# Altium footprint library PcbLib1.PcbLib: 1 footprints
Each footprint in its own frame and in the unit in brackets; x right, y up, seen from the top. Pads: shape width x height; smd on the part's side, far side on the other; paste and mask are expansions set on the pad; w line width, h text height; cw(c..) or ccw(c..) is an arc to the next point about the centre after c.
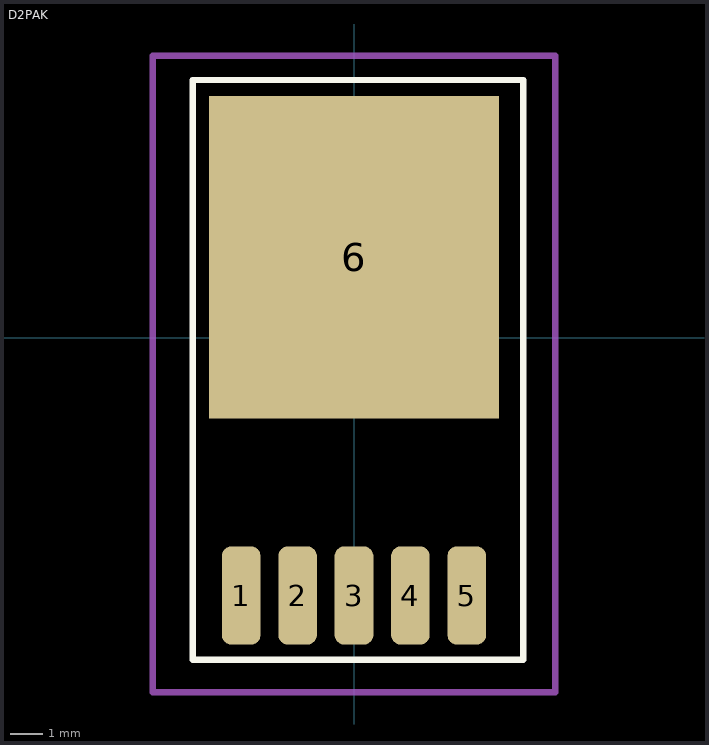
[diagram p0: the footprint, top view; thin cyan lines are the x and y axes]

## D2PAK [mm]
pads (6):
  rrect50% 1.2x3.05 smd: 1(-3.5,-8) 2(-1.75,-8) 3(0,-8) 4(1.75,-8) 5(3.5,-8)
  rect 9x10 smd: 6(0,2.5)
Top Overlay:
  lines w0.2: -5,-10 5.25,-10 5.25,8 -5,8 -5,-2.5 -5,-10
Mechanical 15:
  lines w0.2: -6,8.75 6.25,8.75 6.25,-11 -6.25,-11 -6.25,8.75 -5.5,8.75 ; -2.25,0 2.25,0 ; 0,-2.25 0,2.25
3D body "TO263-5-1.stp": height 4.22, standoff 0, extent -4.912,-8.814 4.909,5.788